# Altium schematic symbol library ButtonPad_lib.SchLib: 3 symbols
Pins are listed as number, name and electrical type; pins without a type are passive.

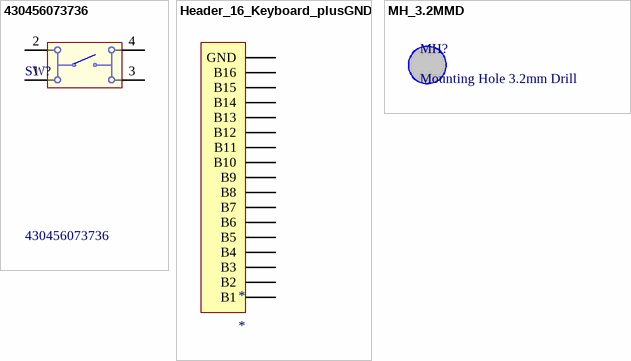
[diagram p0: symbols 430456073736 to MH_3.2MMD]

## 430456073736
designator SW?
WS-TATV THT Tact Switch 12X12 mm; Manufacturer: Wuerth Elektronik; NoPins: 04; ComponentLink1Description: Manufacturer URL; ComponentLink2Description: Datasheet; ComponentLink1URL: http://www.we-online.com; PartNumber: 430456073736; PackageReference: 430456073736; ComponentLink2URL: http://katalog.we-online.de/em/datasheet/430456073736.pdf
footprint 430456073736
pins: 1, 2, 3, 4

## Header_16_Keyboard_plusGND
designator *
footprint HDR1X16_Buttons_plusGND
pins: 1 B1, 2 B2, 3 B3, 4 B4, 5 B5, 6 B6, 7 B7, 8 B8, 9 B9, 10 B10, 11 B11, 12 B12, 13 B13, 14 B14, 15 B15, 16 B16, 17 GND

## MH_3.2MMD
designator MH?, comment Mounting Hole 3.2mm Drill  (no BOM)
footprint MH_3.2MMD